# Altium footprint library TO_THD.PCBLIB: 47 footprints (part 2 of 3)
Each footprint in its own frame and in the unit in brackets; x right, y up, seen from the top. Pads: shape width x height; smd on the part's side, far side on the other; paste and mask are expansions set on the pad; w line width, h text height; cw(c..) or ccw(c..) is an arc to the next point about the centre after c.
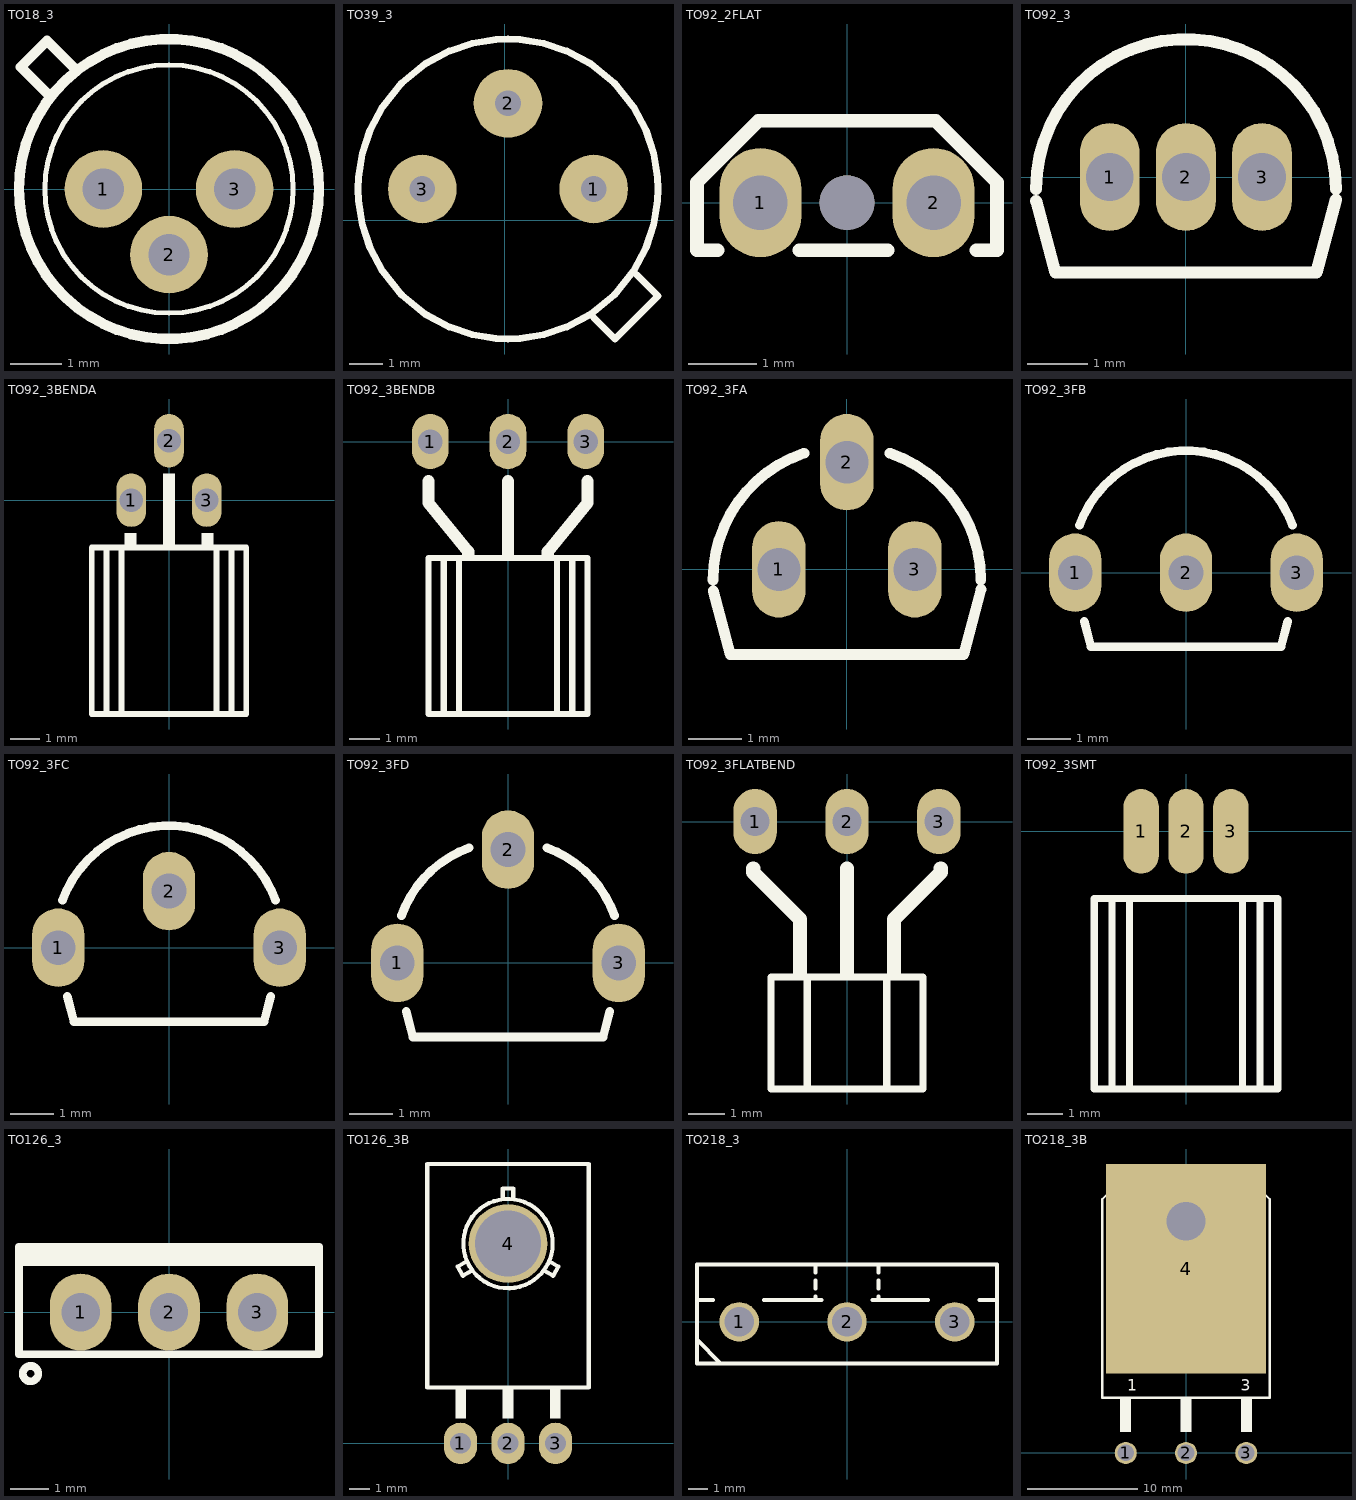
[diagram p1: the footprints below, top view; thin cyan lines are the x and y axes]

## TO18_3 [mm] "TO18, TO-206AA, TO52, TO46, DIA: 5.5mm"
pads (3):
  round 1.5 hole 0.8: 1(-1.27,0) 2(0,-1.27) 3(1.27,0)
TopOverlay:
  circle w0.1: c0,0 r2.4
  circle w0.2: c0,0 r2.9
  lines w0.2: -2.359,1.851 -2.867,2.359 -2.359,2.867 -1.851,2.359
3D body "User Library-TO-18 (KT-1).STEP": height 6.2, standoff -2.5, extent -3.031,-2.8 2.8,3.037

## TO39_3 [mil]
pads (3):
  round 80 hole 30: 1(104.06,36.62) 2(4.06,136.62) 3(-95.94,36.62)
TopOverlay:
  lines w8: 104.06,-113.38 129.06,-138.38 179.06,-88.38 154.06,-63.38 ; -170.94,36.62 -170.44,22.92 -166.04,-4.58 -156.94,-32.08 -142.14,-59.58 -119.74,-87.08 -92.24,-109.48 -64.74,-124.28 -37.24,-133.48 -9.74,-137.88 4.06,-138.38 17.86,-137.88 45.36,-133.48 72.86,-124.28 100.36,-109.48 127.86,-87.08 150.26,-59.58 165.06,-32.08 174.16,-4.58 178.56,22.92 179.06,36.62 178.56,50.32 174.16,77.82 165.06,105.32 150.26,132.82 127.86,160.32 100.36,182.72 72.86,197.52 45.36,206.72 17.86,211.12 4.06,211.62 -9.74,211.12 -37.24,206.72 -64.74,197.52 -92.24,182.72 -119.74,160.32 -142.14,132.82 -156.94,105.32 -166.04,77.82 -170.44,50.32 -170.94,36.62
3D body "User Library-TO-39_TO-205AD.STEP": height 456.69, standoff -268.5, extent -180.41,-148.36 189.63,221.72

## TO92_2FLAT [mm] "TO-92 LPG"
pads (3):
  oval 1.2x1.6 hole 0.8 mask+0.1: 1(-1.27,0) 2(1.27,0)
  round 0.8 hole 0.8 unplated mask+0.1: ""(0,0)
TopOverlay:
  lines w0.2: -1.9,-0.7 -2.2,-0.7 -2.2,0.3 -1.3,1.2 1.3,1.2 2.2,0.3 2.2,-0.7 1.9,-0.7 ; -0.7,-0.7 0.6,-0.7
3D body "User Library-TI_LPG0002A_TO-92_Temp_Sensor.step": height 5.55, standoff -2.54, extent -2.05,-0.55 2.05,1.07

## TO92_3 [mm] "TO-92, SOT54"
pads (3):
  oval 1x1.8 hole 0.8 mask+0.1: 1(-1.27,0) 2(0,0) 3(1.27,0)
TopOverlay:
  lines w0.2: -2.5,-0.2 cw(c0,-0.2) 2.5,-0.2 ; -2.497,-0.399 -2.178,-1.589 2.178,-1.589 2.504,-0.374
3D body "User Library-KSP92 Transistors PNP TO-92 3L (2,54mm).step": height 7.82, standoff -11.7, extent -2.38,-1.45 2.38,2.18

## TO92_3BENDA [mm] "TO-92 Bended, SOT54"
pads (3):
  oval 1x1.8 hole 0.8 mask+0.1: 1(-1.27,0) 2(0,2) 3(1.27,0)
TopOverlay:
  rectangle: -0.2,-1.6 0.2,0.9
  region: 1.5,-1.1 1.1,-1.1 1.1,-1.6 1.5,-1.6
  rectangle: -1.5,-1.6 -1.1,-1.1
  lines w0.2: -2.1,-7.2 -2.1,-1.6 ; -1.6,-7.2 -1.6,-1.6 ; 1.6,-7.2 1.6,-1.6 ; 2.1,-7.2 2.1,-1.6 ; -2.6,-7.2 2.6,-7.2 2.6,-1.6 -2.6,-1.6 -2.6,-7.2
3D body "TO-92_triangle_pin_right_angle.stp": height 4.5, standoff -3, extent -2.508,-7.125 2.508,2.3

## TO92_3BENDB [mm] "TO-92 Bended, SOT54"
pads (3):
  oval 1.2x1.8 hole 0.8: 1(-2.54,0) 2(0,0) 3(2.54,0)
TopOverlay:
  lines w0.2: -2.1,-8.9 -2.1,-3.8 ; -1.6,-8.9 -1.6,-3.8 ; 1.6,-8.9 1.6,-3.8 ; 2.1,-8.9 2.1,-3.8 ; -2.6,-8.9 -2.6,-3.8 2.6,-3.8 2.6,-8.9 -2.6,-8.9
  lines w0.4: -2.6,-1.3 -2.6,-2 -1.3,-3.6 -1.3,-3.7 ; 0,-3.7 0,-1.3 ; 1.3,-3.7 1.3,-3.6 2.6,-2 2.6,-1.3
3D body: height 1.55, standoff 1.15, extent -0.2,-3.9 0.2,0.1
3D body "TO-92-2_Wide_Horizontal_FlatSideDown.step": height 3.74, standoff -4.16, extent -2.81,-8.79 2.81,0.2
3D body: height 1.55, standoff -3, extent -0.2,-0.1 0.2,0.3

## TO92_3FA [mm] "TO-92 formed leads, SOT54"
pads (3):
  oval 1x1.8 hole 0.8 mask+0.1: 1(-1.27,0) 2(0,2) 3(1.27,0)
TopOverlay:
  lines w0.2: -2.5,-0.2 cw(c0,-0.2) -0.8,2.169 ; -2.497,-0.399 -2.178,-1.589 2.178,-1.589 2.504,-0.374 ; 0.8,2.169 cw(c0,-0.2) 2.5,-0.2
3D body "TO-92_triangle_pin.stp": height 8.2, standoff -3, extent -2.508,-1.35 2.508,3.001

## TO92_3FB [mm] "TO-92 formed leads, TO-226, SOT54A"
pads (3):
  oval 1.2x1.8 hole 0.8: 1(-2.54,0) 2(0,0) 3(2.54,0)
TopOverlay:
  lines w0.2: -2.443,1.089 cw(c0,0.2) 2.443,1.089 ; -2.337,-1.11 -2.178,-1.7 2.178,-1.7 2.337,-1.11
3D body "TO-92_line_pin_2_5mm_pitch.stp": height 8.2, standoff -3, extent -2.75,-1.85 2.75,2.501

## TO92_3FC [mm] "TO-92 formed leads, TO-226"
pads (3):
  oval 1.2x1.8 hole 0.8: 1(-2.54,0) 2(0,1.3) 3(2.54,0)
TopOverlay:
  lines w0.2: -2.443,1.089 cw(c0,0.2) 2.443,1.089 ; -2.337,-1.11 -2.178,-1.7 2.178,-1.7 2.337,-1.11
3D body "ALSRobot-TO-92B.step": height 7.34, standoff -0.7, extent -2.84,-1.4 2.84,2.4

## TO92_3FD [mm] "TO-92 formed leads, TO-226"
pads (3):
  oval 1.2x1.8 hole 0.8: 1(-2.54,0) 2(0,2.6) 3(2.54,0)
TopOverlay:
  lines w0.2: -2.443,1.089 cw(c0,0.2) -0.889,2.643 ; -2.337,-1.11 -2.178,-1.7 2.178,-1.7 2.337,-1.11 ; 0.889,2.643 cw(c0,0.2) 2.443,1.089
3D body "User Library-TO-92D.step": height 8, standoff -3.02, extent -2.787,-1.53 2.787,2.81

## TO92_3FLATBEND [mm] "TO-92 Bended, SOT54"
pads (3):
  oval 1.2x1.8 hole 0.8: 1(-2.54,0) 2(0,0) 3(2.54,0)
TopOverlay:
  lines w0.2: -1.1,-7.3 -1.1,-4.3 ; 1.1,-7.3 1.1,-4.3 ; -2.1,-7.4 2.1,-7.4 2.1,-4.3 -2.1,-4.3 -2.1,-7.4
  lines w0.4: -2.6,-1.3 -2.6,-1.4 -1.3,-2.7 -1.3,-4.2 ; 0,-4.2 0,-1.3 ; 1.3,-4.2 1.3,-2.7 2.6,-1.4 2.6,-1.3
3D body "TO-92 flat Formed Leads Horizontal Back.stp": height 1.58, standoff -3.69, extent -2.73,-7.291 2.73,0.4

## TO92_3SMT [mm] "TO-92 Surface Mounted"
height 7.62
pads (3):
  oval 1x2.4 smd mask+0.1: 1(-1.27,0) 2(0,0) 3(1.27,0)
TopOverlay:
  lines w0.2: -2.1,-7.3 -2.1,-1.9 ; -1.6,-7.3 -1.6,-1.9 ; 1.6,-7.3 1.6,-1.9 ; 2.1,-7.3 2.1,-1.9 ; -2.6,-7.3 -2.6,-1.9 2.6,-1.9 2.6,-7.3 -2.6,-7.3
3D body: height 1.8, standoff 0.2, extent 1.07,-2 1.47,1.1
3D body: height 1.8, standoff 0.2, extent -1.47,-2 -1.07,1.1
3D body: height 1.8, standoff 0.2, extent -0.2,-2 0.2,1.1
3D body "TO-92head.step": height 4.41, standoff 0.05, extent -2.524,-7.2 2.5,-2

## TO126_3 [mm] "TO126, TO-126, SOT32 (PHIPLIPS), pitch: 2.3mm, 8X3mm"
pads (3):
  oval 1.6x2 hole 1: 1(-2.3,0) 2(0,0) 3(2.3,0)
TopOverlay:
  circle w0.2: c-3.6,-1.6 r0.2
  rectangle: -3.9,1.2 3.9,1.7
  lines w0.2: -3.9,-1.1 3.9,-1.1 3.9,1.7 -3.9,1.7 -3.9,-1.1
3D body "User Library-TO-126 (SOT32) Gold PCB.STEP": height 13.19, standoff -3.54, extent -3.8,-1 3.8,1.55

## TO126_3B [mm] "TO126, TO-126, SOT32 (PHIPLIPS), BEND pitch: 2.3mm, 8X3mm"
pads (4):
  oval 1.6x2 hole 1: 1(-2.3,0) 2(0,0) 3(2.3,0)
  round 3.81 hole 3.2: 4(0,9.652)
TopOverlay:
  circle w0.2: c0,9.652 r2.159
  rectangle: -2.54,1.2 -2.032,2.64
  rectangle: -0.254,1.2 0.254,2.64
  rectangle: 2.032,1.2 2.54,2.64
  lines w0.2: -1.997,8.792 -2.437,8.538 -2.183,8.099 -1.743,8.353 ; -0.254,11.811 -0.254,12.319 0.254,12.319 0.254,11.811 ; 1.743,8.353 2.183,8.099 2.437,8.538 1.997,8.792 ; -3.9,2.7 3.9,2.7 3.9,13.5 -3.9,13.5 -3.9,2.7
3D body "User Library-TO-126 (SOT32) Gold PCB.STEP": height 2.5, standoff -0.05, extent -3.8,-3.34 3.8,13.39

## TO218_3 [mm] "TO218, TO-218, SOT-93, pitch: 5.5mm"
pads (3):
  round 2 / inner round 2 / far side oval 2.4x3.6 hole 1.5: 1(-5.461,0) 2(0,0) 3(5.461,0)
TopOverlay:
  lines w0.2: -7.6,-0.9 -6.4,-2.1 ; -7.6,1.1 -6.8,1.1 ; -4.2,1.1 -1.3,1.1 ; -1.6,1.1 -1.6,1.3 ; -1.6,1.7 -1.6,2.1 ; -1.6,2.5 -1.6,2.9 ; 1.3,1.1 4.1,1.1 ; 1.6,1.1 1.6,1.3 ; 1.6,1.7 1.6,2.1 ; 1.6,2.5 1.6,2.9 ; 6.7,1.1 7.6,1.1 ; -7.6,-2.1 7.6,-2.1 7.6,2.9 -7.6,2.9 -7.6,-2.1
3D body "User Library-TO218.STEP": height 22.23, standoff -3, extent -7.475,-1.981 7.525,2.819

## TO218_3B [mm] "O218, TO-218, SOT-93, pitch: 5.5mm BENDED"
pads (4):
  round 2 / inner round 2 / far side oval 2.4x3.6 hole 1.5: 1(-5.461,0) 2(0,0) 3(5.461,0)
  rect 14.5x19 smd: 4(0,16.701)
via 0,21.012 diameter 3.5 hole 3.5
TopOverlay:
  rectangle: -0.508,1.9 0.508,5
  rectangle: -5.988,1.9 -4.972,5
  region: 5.988,5 4.972,5 4.972,1.9 5.988,1.9
  lines w0.2: -7.6,5 -7.6,23 -5.6,25 5.6,25 7.6,23 7.6,5 -7.6,5
  text "1" at -5.334,5.653 h1.02
  text "3" at 4.953,5.653 h1.02
Mechanical1:
  circle w0.2: c0,21 r2
3D body "User Library-TO218-O.STEP": height 4.82, standoff -3, extent -7.499,-0.319 7.501,24.909